# EAGLE library part 28_0.65MM (library custom)
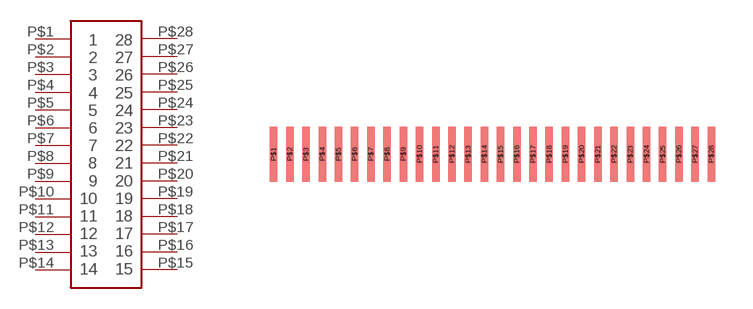
[diagram p12: symbol with the pads of 28_0.65MM; footprint 28_0.65MM]

Designator prefix -

## 28_0.65MM  [28_0.65MM]
P$1  P$1
P$2  P$2
P$3  P$3
P$4  P$4
P$5  P$5
P$6  P$6
P$7  P$7
P$8  P$8
P$9  P$9
P$10  P$10
P$11  P$11
P$12  P$12
P$13  P$13
P$14  P$14
P$15  P$15
P$16  P$16
P$17  P$17
P$18  P$18
P$19  P$19
P$20  P$20
P$21  P$21
P$22  P$22
P$23  P$23
P$24  P$24
P$25  P$25
P$26  P$26
P$27  P$27
P$28  P$28

## Footprint 28_0.65MM (pad centres in mm)
smd 0.3 x 2.2: P$1 -9.1,0.68; P$2 -8.45,0.68; P$3 -7.8,0.68; P$4 -7.15,0.68; P$5 -6.5,0.68; P$6 -5.85,0.68; P$7 -5.2,0.68; P$8 -4.55,0.68; P$9 -3.9,0.68; P$10 -3.25,0.68; P$11 -2.6,0.68; P$12 -1.95,0.68; P$13 -1.3,0.68; P$14 -0.65,0.68; P$15 0,0.68; P$16 0.65,0.68; P$17 1.3,0.68; P$18 1.95,0.68; P$19 2.6,0.68; P$20 3.25,0.68; P$21 3.9,0.68; P$22 4.55,0.68; P$23 5.2,0.68; P$24 5.85,0.68; P$25 6.5,0.68; P$26 7.15,0.68; P$27 7.8,0.68; P$28 8.45,0.68